# EAGLE library part HD3SS3220 (library Texas Instruments)
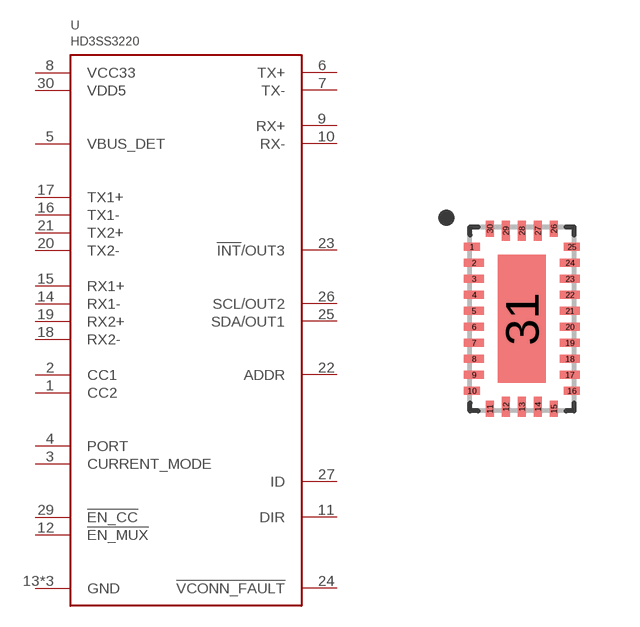
[diagram p4: symbol with the pads of WQFN30; footprint WQFN30]

Designator prefix U

## HD3SS3220  [WQFN30]
1  CC2
2  CC1
3  CURRENT_MODE
4  PORT
5  VBUS_DET
6  TX+
7  TX-
8  VCC33
9  RX+
10  RX-
11  DIR
12  !EN_MUX
13  GND
14  RX1-
15  RX1+
16  TX1-
17  TX1+
18  RX2-
19  RX2+
20  TX2-
21  TX2+
22  ADDR
23  !INT!/OUT3
24  !VCONN_FAULT
25  SDA/OUT1
26  SCL/OUT2
27  ID
28  GND
29  !EN_CC
30  VDD5
31  GND

## Footprint WQFN30 (pad centres in mm)
smd 0.4 x 0.2: 1 -1.25,1.8; 10 -1.25,-1.8; 16 1.25,-1.8; 25 1.25,1.8
smd 0.5 x 0.2: 2 -1.2,1.4; 3 -1.2,1; 4 -1.2,0.6; 5 -1.2,0.2; 6 -1.2,-0.2; 7 -1.2,-0.6; 8 -1.2,-1; 9 -1.2,-1.4; 17 1.2,-1.4; 18 1.2,-1; 19 1.2,-0.6; 20 1.2,-0.2; 21 1.2,0.2; 22 1.2,0.6; 23 1.2,1; 24 1.2,1.4
smd 0.2 x 0.4: 11 -0.8,-2.25; 15 0.8,-2.25; 26 0.8,2.25; 30 -0.8,2.25
smd 0.2 x 0.5: 12 -0.4,-2.2; 13 0,-2.2; 14 0.4,-2.2; 27 0.4,2.2; 28 0,2.2; 29 -0.4,2.2
smd 1.2 x 3.2: 31 0,0